# Altium footprint library PCB Chip Capacitor.PcbLib: 33 footprints (part 3 of 3)
Each footprint in its own frame and in the unit in brackets; x right, y up, seen from the top. Pads: shape width x height; smd on the part's side, far side on the other; paste and mask are expansions set on the pad; w line width, h text height; cw(c..) or ccw(c..) is an arc to the next point about the centre after c.
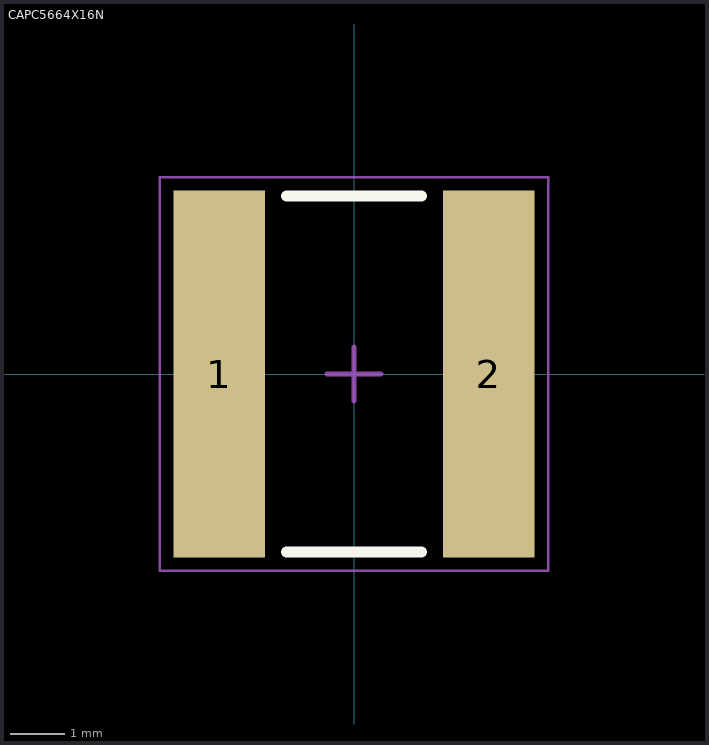
[diagram p2: the footprint, top view; thin cyan lines are the x and y axes]

## CAPC5664X16N [mm] "Chip Capacitor, Body 5.6x6.4mm, IPC Medium High Density (2225 Imperial)"
height 1.55
pads (2):
  rect 1.7x6.8 smd: 1(-2.5,0) 2(2.5,0)
Top Overlay:
  lines w0.2: -1.25,-3.3 1.25,-3.3 ; -1.25,3.3 1.25,3.3
Mechanical 15:
  lines w0.05: -3.6,-3.65 -3.6,3.65 3.6,3.65 3.6,-3.65 -3.6,-3.65
  lines w0.1: -0.5,0 0.5,0 ; 0,-0.5 0,0.5
3D body "CAPC5664X16L.STEP": height 1, standoff 0, extent -2.8,-3.15 2.8,3.15